# Altium footprint library pasive_component.PcbLib: 14 footprints
Each footprint in its own frame and in the unit in brackets; x right, y up, seen from the top. Pads: shape width x height; smd on the part's side, far side on the other; paste and mask are expansions set on the pad; w line width, h text height; cw(c..) or ccw(c..) is an arc to the next point about the centre after c.
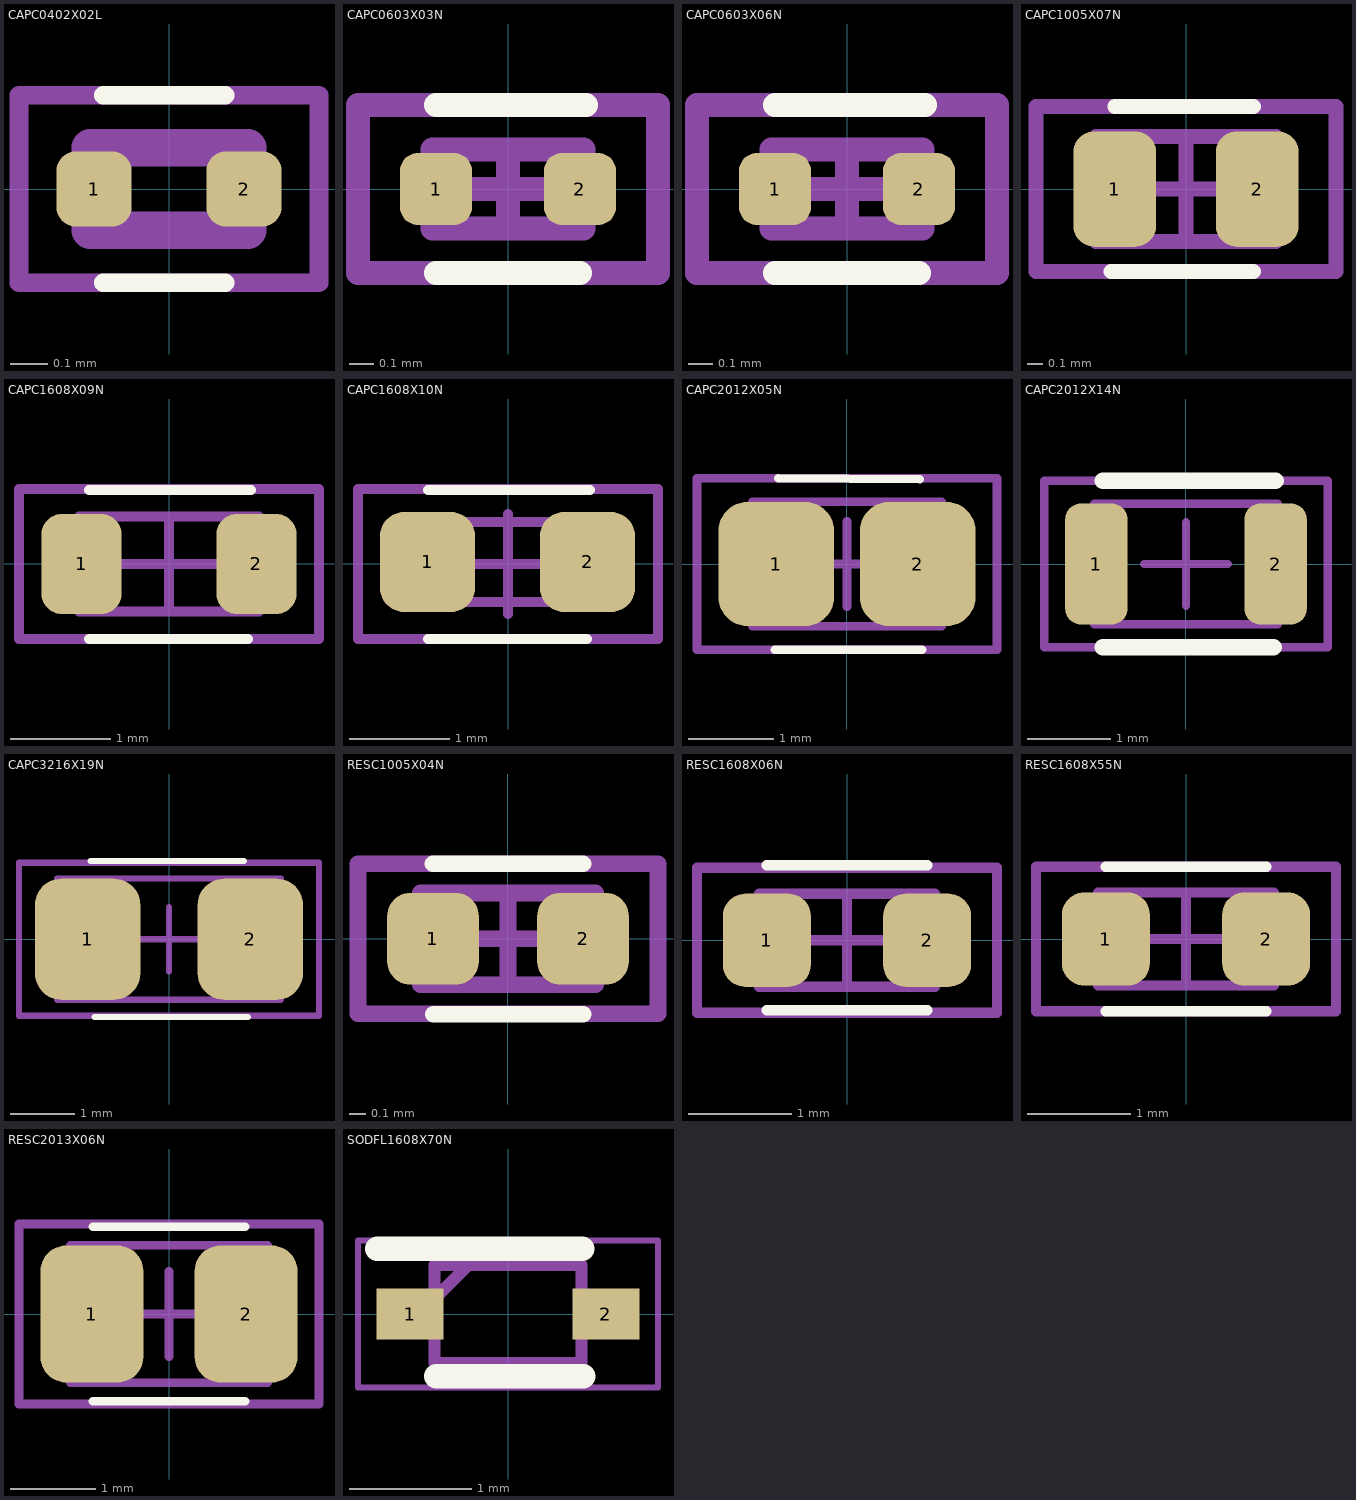
[diagram p0: the footprints below, top view; thin cyan lines are the x and y axes]

## CAPC0402X02L [mm] "Chip Capacitor, 2-Leads, Body 0,40x0,20mm, IPC High Density"
height 0.22
pads (2):
  rrect50% 0.2x0.2 smd: 1(-0.2,0) 2(0.2,0)
Top Overlay:
  lines w0.05: -0.175,-0.25 0.15,-0.25 ; -0.175,0.25 0.15,0.25
Mechanical 13:
  lines w0.1: -0.21,-0.11 -0.21,0.11 0.21,0.11 0.21,-0.11 -0.21,-0.11
Mechanical 15:
  lines w0.05: -0.4,-0.25 -0.4,0.25 0.4,0.25 0.4,-0.25 -0.4,-0.25
Top Designator:
  text ".Designator" at -1.1,-0.058 h0.25
3D body "GRM022R60J104ME15L.stp": height 0.22, standoff 0, extent -0.2,-0.1 0.2,0.1

## CAPC0603X03N [mm] "Chip Capacitor, 2-Leads, Body 0,60x0,30mm, IPC Medium Density"
height 0.33
pads (2):
  rrect50% 0.3x0.3 smd: 1(-0.3,0) 2(0.3,0)
Top Overlay:
  lines w0.1: -0.3,-0.35 0.3,-0.35 ; -0.3,0.35 0.325,0.35
Mechanical 13:
  lines w0.1: -0.315,-0.165 0.315,-0.165 0.315,0.165 -0.315,0.165 -0.315,-0.165
Mechanical 15:
  lines w0.1: -0.165,0 0.165,0 ; 0,-0.165 0,0.165 ; -0.625,-0.35 0.625,-0.35 0.625,0.35 -0.625,0.35 -0.625,-0.35
Top Designator:
  text ".Designator" at -1.054,-0.087 h0.25
3D body "CAPC0603X03N.step": height 0.33, standoff 0, extent -0.315,-0.165 0.315,0.165

## CAPC0603X06N [mm] "Chip Capacitor, 2-Leads, Body 0,60x0,30mm, IPC Medium Density"
height 0.55
pads (2):
  rrect50% 0.3x0.3 smd: 1(-0.3,0) 2(0.3,0)
Top Overlay:
  lines w0.1: -0.3,-0.35 0.3,-0.35 ; -0.3,0.35 0.325,0.35
Mechanical 13:
  lines w0.1: -0.315,-0.165 0.315,-0.165 0.315,0.165 -0.315,0.165 -0.315,-0.165
Mechanical 15:
  lines w0.1: -0.165,0 0.165,0 ; 0,-0.165 0,0.165 ; -0.625,-0.35 0.625,-0.35 0.625,0.35 -0.625,0.35 -0.625,-0.35
Top Designator:
  text ".Designator" at -1.054,-0.087 h0.25
3D body "CAPC0603X06N.step": height 0.55, standoff 0, extent -0.37,-0.165 0.32,0.225

## CAPC1005X07N [mm] "Chip Capacitor, 2-Leads, Body 1,00x0,50mm, IPC Medium Density"
height 0.7
pads (2):
  rrect50% 0.55x0.77 smd: 1(-0.475,0) 2(0.475,0)
Top Overlay:
  lines w0.1: -0.5,-0.55 0.45,-0.55 ; -0.475,0.55 0.45,0.55
Mechanical 13:
  lines w0.1: -0.6,-0.35 0.6,-0.35 0.6,0.35 -0.6,0.35 -0.6,-0.35
Mechanical 15:
  lines w0.1: -0.35,0 0.35,0 ; 0,-0.35 0,0.35 ; -1,-0.55 1,-0.55 1,0.55 -1,0.55 -1,-0.55
Top Designator:
  text ".Designator" at -1.3,-0.058 h0.25
3D body "CAPC1005X07N.step": height 0.7, standoff 0, extent -0.6,-0.35 0.6,0.35

## CAPC1608X09N [mm] "Chip Capacitor, 2-Leads, Body 1,60x0,80mm, IPC Medium Density"
height 0.95
pads (2):
  rrect50% 0.8x1 smd: 1(-0.875,0) 2(0.875,0)
Top Overlay:
  lines w0.1: -0.8,-0.75 0.79,-0.75 ; -0.8,0.74 0.82,0.74
Mechanical 13:
  lines w0.1: -0.9,-0.475 0.9,-0.475 0.9,0.475 -0.9,0.475 -0.9,-0.475
Mechanical 15:
  lines w0.1: -0.475,0 0.475,0 ; 0,-0.475 0,0.475 ; -1.5,-0.75 1.5,-0.75 1.5,0.75 -1.5,0.75 -1.5,-0.75
Top Designator:
  text ".Designator" at -1.3,-0.083 h0.25
3D body "GCJ188R72A104KA01D.stp": height 0.78, standoff -0.02, extent -0.75,-0.45 0.85,0.45

## CAPC1608X10N [mm] "Chip Capacitor, 2-Leads, Body 1,60x0,80mm, IPC Medium Density"
height 0.95
pads (2):
  rrect50% 0.95x1 smd: 1(-0.805,0.02) 2(0.795,0.02)
Top Overlay:
  lines w0.1: -0.8,-0.75 0.79,-0.75 ; -0.8,0.74 0.82,0.74
Mechanical 13:
  lines w0.1: -0.805,-0.38 0.795,-0.38 0.795,0.42 -0.805,0.42 -0.805,-0.38
Mechanical 15:
  lines w0.1: -0.5,0 0.5,0 ; 0,-0.5 0,0.5 ; -1.5,-0.75 1.5,-0.75 1.5,0.75 -1.5,0.75 -1.5,-0.75
Top Designator:
  text ".Designator" at -1.175,-0.058 h0.25
3D body "C0603X473K1RACTU.stp": height 0.87, standoff 0, extent -0.875,-0.46 0.875,0.49

## CAPC2012X05N [mm] "Chip Capacitor, 2-Leads, Body 2,01x1,25mm, IPC Medium Density"
height 0.5
pads (2):
  rrect50% 1.35x1.45 smd: 1(-0.825,0) 2(0.825,0)
Top Overlay:
  lines w0.1: -0.84,-1 0.88,-1 ; -0.8,1 0.85,0.99
Mechanical 13:
  lines w0.1: -1.105,-0.725 -1.105,0.725 1.105,0.725 1.105,-0.725 -1.105,-0.725
Mechanical 15:
  lines w0.1: -0.5,0 0.5,0 ; 0,-0.5 0,0.5 ; -1.75,-1 -1.75,1 1.75,1 1.75,-1 -1.75,-1
Top Designator:
  text ".Designator" at -1.014,-0.092 h0.25
3D body "step_temp.STEP": height 0.94, standoff 0, extent -1.005,-0.625 1.005,0.625

## CAPC2012X14N [mm] "Chip Capacitor, 2-Leads, Body 2,00x1,25mm, IPC Medium Density"
height 1.45
pads (2):
  rrect50% 0.75x1.45 smd: 1(-1.075,0) 2(1.075,0)
Top Overlay:
  lines w0.2: -1,-1 1.05,-1 ; -1,1 1.075,1
Mechanical 13:
  lines w0.1: -1.1,-0.725 1.1,-0.725 1.1,0.725 -1.1,0.725 -1.1,-0.725
Mechanical 15:
  lines w0.1: -0.5,0 0.5,0 ; 0,-0.5 0,0.5 ; -1.7,-1 -1.7,1 1.7,1 1.7,-1 -1.7,-1
Top Designator:
  text ".Designator" at -1.25,-0.083 h0.25
3D body "CAPC2012X14N.step": height 1.45, standoff 0, extent -1.1,-0.725 1.1,0.725

## CAPC3216X19N [mm] "Chip Capacitor, 2-Leads, Body 3,20x1,60mm, IPC Medium Density"
height 1.9
pads (2):
  rrect50% 1.65x1.9 smd: 1(-1.275,0) 2(1.275,0)
Top Overlay:
  lines w0.1: -1.225,1.225 1.175,1.225 ; -1.167,-1.219 1.233,-1.219
Mechanical 13:
  lines w0.1: -1.75,-0.95 -1.75,0.95 1.75,0.95 1.75,-0.95 -1.75,-0.95
Mechanical 15:
  lines w0.1: -0.5,0 0.5,0 ; 0,-0.5 0,0.5 ; -2.35,-1.2 2.35,-1.2 2.35,1.2 -2.35,1.2 -2.35,-1.2
Top Designator:
  text ".Designator" at -1.25,-0.058 h0.25
3D body "CAPC3216X19N.step": height 1.9, standoff 0, extent -1.75,-0.95 1.75,0.95

## RESC1005X04N [mm] "Chip Resistor, 2-Leads, Body 1,00x0,50mm, IPC Medium Density"
height 0.4
pads (2):
  rrect50% 0.55x0.55 smd: 1(-0.45,0) 2(0.45,0)
Top Overlay:
  lines w0.1: -0.45,0.45 0.45,0.45 ; -0.448,-0.452 0.452,-0.452
Mechanical 13:
  lines w0.1: -0.525,-0.275 0.525,-0.275 0.525,0.275 -0.525,0.275 -0.525,-0.275
Mechanical 15:
  lines w0.1: -0.275,0 0.275,0 ; 0,-0.275 0,0.275 ; -0.9,-0.45 0.9,-0.45 0.9,0.45 -0.9,0.45 -0.9,-0.45
Top Designator:
  text ".Designator" at -1.004,-0.112 h0.25
3D body "RESC1005X04N.step": height 0.4, standoff 0, extent -0.525,-0.275 0.525,0.275

## RESC1608X06N [mm] "Chip Resistor, 2-Leads, Body 1,60x0,80mm, IPC Medium Density"
height 0.55
pads (2):
  rrect50% 0.85x0.9 smd: 1(-0.775,0) 2(0.775,0)
Top Overlay:
  lines w0.1: -0.775,-0.675 0.775,-0.675 ; -0.775,0.725 0.775,0.725
Top Courtyard:
  lines w0.1: -0.45,0 0.45,0 ; 0,-0.45 0,0.45 ; -1.45,-0.7 1.45,-0.7 1.45,0.7 -1.45,0.7 -1.45,-0.7
Mechanical 13:
  lines w0.1: -0.85,-0.45 0.85,-0.45 0.85,0.45 -0.85,0.45 -0.85,-0.45
Top Designator:
  text ".Designator" at -1.262,-0.071 h0.25
3D body "RESC1608X06N.step": height 0.55, standoff 0, extent -0.85,-0.45 0.85,0.45

## RESC1608X55N [mm]
pads (2):
  rrect50% 0.85x0.9 smd: 1(-0.775,0) 2(0.775,0)
Top Overlay:
  lines w0.1: -0.775,-0.7 0.775,-0.7 ; -0.775,0.7 0.775,0.7
Top 3D Body:
  lines w0.1: -0.85,-0.45 0.85,-0.45 0.85,0.45 -0.85,0.45 -0.85,-0.45
Top Courtyard:
  lines w0.1: -0.45,0 0.45,0 ; 0,-0.45 0,0.45 ; -1.45,-0.7 1.45,-0.7 1.45,0.7 -1.45,0.7 -1.45,-0.7
Top Designator:
  text ".Designator" at -1.262,-0.096 h0.25
3D body "R0603.step": height 0.55, standoff 0, extent -0.85,-0.45 0.85,0.45

## RESC2013X06N [mm] "Chip Resistor, 2-Leads, Body 2,05x1,30mm, IPC Medium Density"
height 0.55
pads (2):
  rrect50% 1.2x1.6 smd: 1(-0.9,0) 2(0.9,0)
Top Overlay:
  lines w0.1: -0.889,-1.016 0.889,-1.016 ; -0.889,1.016 0.889,1.016
Mechanical 13:
  lines w0.1: -1.15,-0.8 1.15,-0.8 1.15,0.8 -1.15,0.8 -1.15,-0.8
Mechanical 15:
  lines w0.1: -0.5,0 0.5,0 ; 0,-0.5 0,0.5 ; -1.75,-1.05 1.75,-1.05 1.75,1.05 -1.75,1.05 -1.75,-1.05
Top Designator:
  text ".Designator" at -1.004,-0.112 h0.25
3D body: height 0.55, standoff 0, extent 0.75,-0.8 1.15,0.8
3D body: height 0.55, standoff 0, extent -1.15,-0.8 -0.75,0.8
3D body: height 0.55, standoff 0, extent -0.75,-0.8 0.75,0.8

## SODFL1608X70N [mm]
pads (2):
  rect 0.55x0.42 smd: 1(-0.8,0) 2(0.8,0)
Top Overlay:
  lines w0.2: -1.067,0.533 0.608,0.533 ; -0.584,-0.508 0.616,-0.508
Mechanical 15:
  lines w0.1: -0.6,0.125 -0.325,0.4 ; -0.6,-0.4 0.6,-0.4 0.6,0.4 -0.6,0.4 -0.6,-0.4
Mechanical 20:
  lines w0.05: -1.225,-0.6 1.225,-0.6 1.225,0.6 -1.225,0.6 -1.225,-0.6
3D body "BAT41KFILM.stp": height 0.7, standoff 0, extent -0.825,-0.375 0.775,0.425